# Altium footprint library LED.PcbLib: 43 footprints (part 2 of 3)
Each footprint in its own frame and in the unit in brackets; x right, y up, seen from the top. Pads: shape width x height; smd on the part's side, far side on the other; paste and mask are expansions set on the pad; w line width, h text height; cw(c..) or ccw(c..) is an arc to the next point about the centre after c.
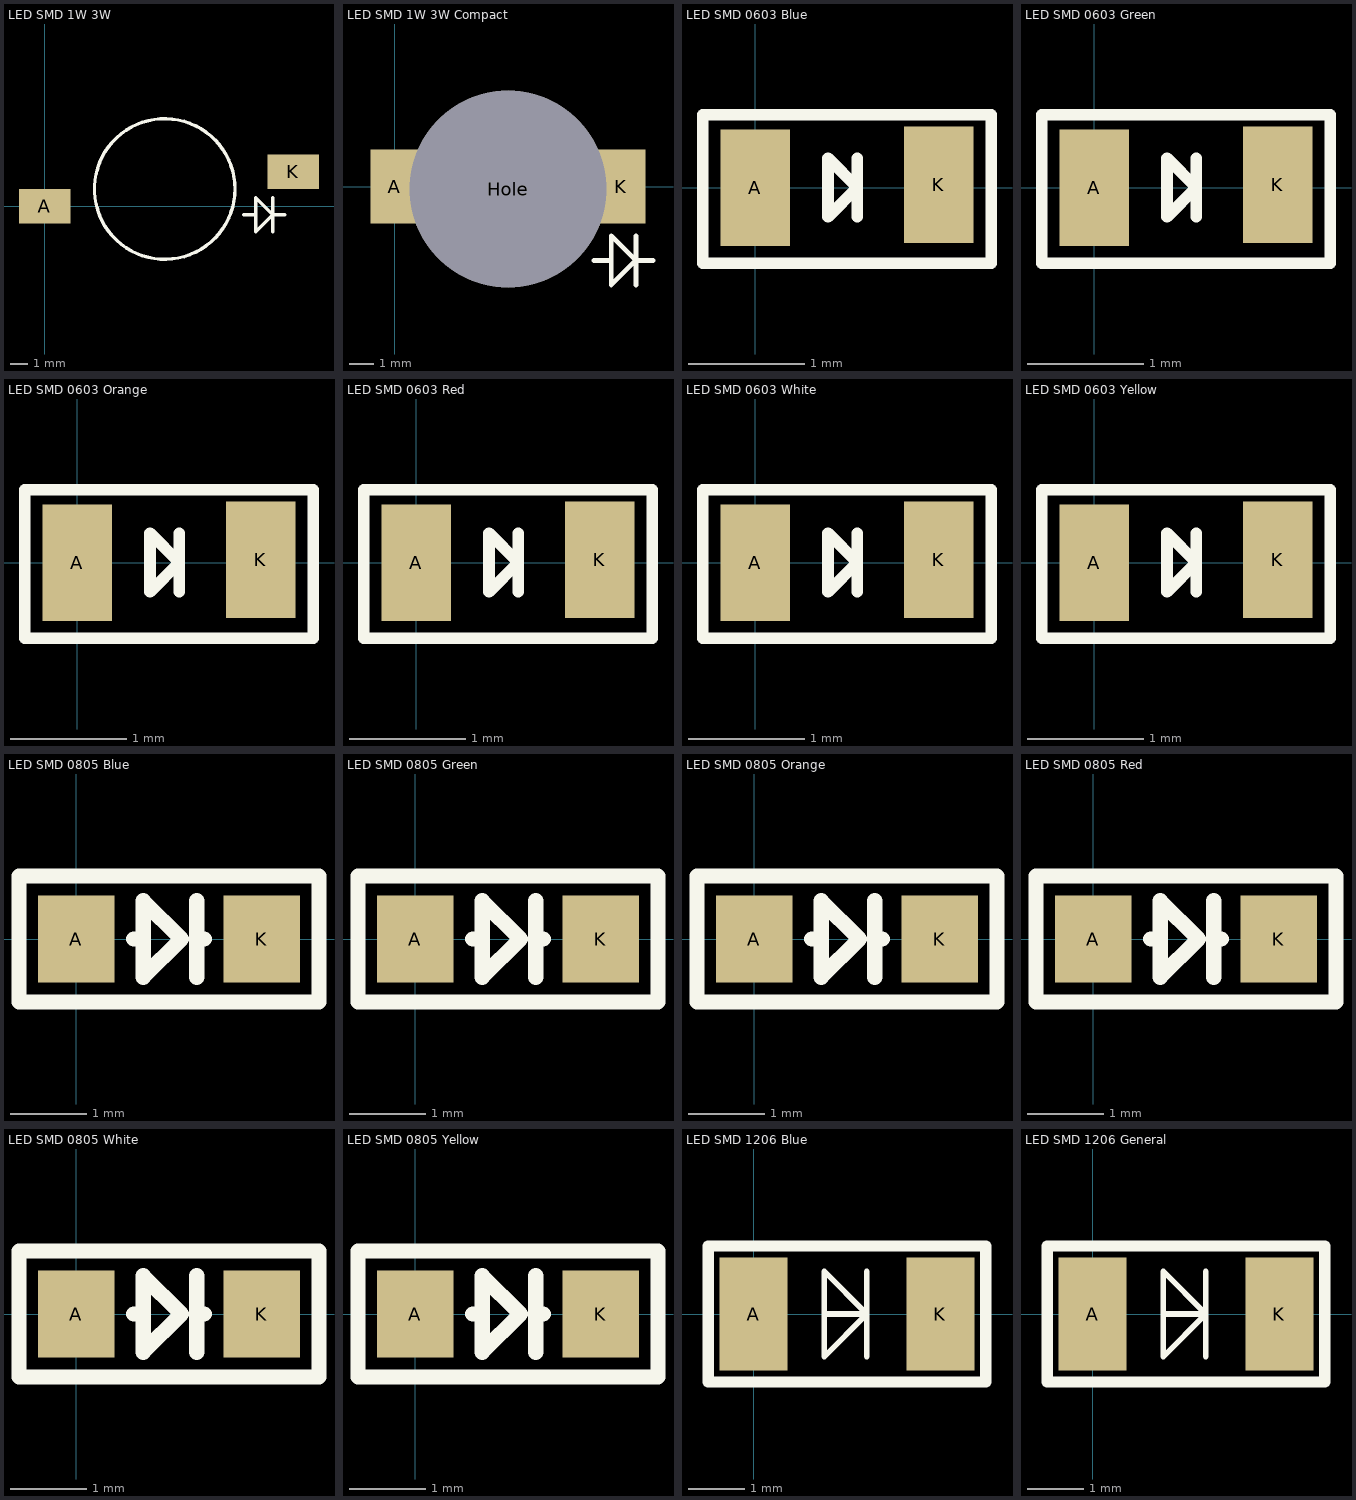
[diagram p1: the footprints below, top view; thin cyan lines are the x and y axes]

## LED SMD 1W 3W [mm]
height 5.4
pads (2):
  rect 3x2 smd: A(0,0) K(14.5,2)
Top Overlay:
  circle w0.2: c7,1 r4.1
  lines w0.2: 12.3,-0.5 11.6,-0.5 ; 13.3,-1.5 13.3,0.5 ; 14,-0.5 13.3,-0.5 ; 11.6,-0.5 11.6,-0.5 ; 13.3,-0.5 13.3,-0.5 ; 13.3,-0.5 12.3,0.5 12.3,-1.5 13.3,-0.5 ; 13.3,-0.5 13.3,-0.5
Top Solder:
  circle w4: c7,1 r1.9
3D body "1W-3W-Led.step": height 5.93, standoff -0.02, extent -0.086,-3 14.586,5

## LED SMD 1W 3W Compact [mm]
height 5.4
pads (3):
  rect 2x3 smd: A(0,0) K(9.2,0)
  round 8 hole 8 unplated mask+0: Hole(4.6,-0.1)
Top Overlay:
  lines w0.2: 8.8,-3 8.1,-3 ; 9.8,-4 9.8,-2 ; 10.5,-3 9.8,-3 ; 8.1,-3 8.1,-3 ; 9.8,-3 8.8,-2 8.8,-4 9.8,-3 ; 9.8,-3 9.8,-3
3D body "1W-3W-Led.step": height 4.5, standoff -1.45, extent -2.536,-4.1 12.136,3.9

## LED SMD 0603 Blue [mm]
height 0.55
pads (2):
  rect 0.6x1 smd: A(0,0) K(1.575,0.025)
Top Overlay:
  lines w0.1: 0.875,-0.25 0.875,0.25 ; -0.45,-0.65 -0.45,0.625 2.025,0.625 2.025,-0.65 -0.45,-0.65 ; 0.625,-0.25 0.625,0.25 0.875,0 0.625,-0.25
3D body "LED_0603_Blue.step": height 0.6, standoff 0, extent -0.01,-0.375 1.61,0.425

## LED SMD 0603 Green [mm]
height 0.55
pads (2):
  rect 0.6x1 smd: A(0,0) K(1.575,0.025)
Top Overlay:
  lines w0.1: 0.875,-0.25 0.875,0.25 ; -0.45,-0.65 -0.45,0.625 2.025,0.625 2.025,-0.65 -0.45,-0.65 ; 0.625,-0.25 0.875,0 0.625,0.25 0.625,-0.25
3D body "LED_0603_Green.step": height 0.6, standoff 0, extent -0.035,-0.375 1.585,0.425

## LED SMD 0603 Orange [mm]
height 0.55
pads (2):
  rect 0.6x1 smd: A(0,0) K(1.575,0.025)
Top Overlay:
  lines w0.1: 0.875,-0.25 0.875,0.25 ; -0.45,-0.65 -0.45,0.625 2.025,0.625 2.025,-0.65 -0.45,-0.65 ; 0.625,-0.25 0.875,0 0.625,0.25 0.625,-0.25
3D body "LED_0603_Orange.step": height 0.6, standoff 0, extent -0.01,-0.375 1.61,0.425

## LED SMD 0603 Red [mm]
height 0.55
pads (2):
  rect 0.6x1 smd: A(0,0) K(1.575,0.025)
Top Overlay:
  lines w0.1: 0.875,-0.25 0.875,0.25 ; -0.45,-0.65 -0.45,0.625 2.025,0.625 2.025,-0.65 -0.45,-0.65 ; 0.625,-0.25 0.625,0.25 0.875,0 0.625,-0.25
3D body "LED_0603_Red.step": height 0.6, standoff 0, extent -0.01,-0.375 1.61,0.425

## LED SMD 0603 White [mm]
height 0.55
pads (2):
  rect 0.6x1 smd: A(0,0) K(1.575,0.025)
Top Overlay:
  lines w0.1: 0.875,-0.25 0.875,0.25 ; -0.45,-0.65 2.025,-0.65 2.025,0.625 -0.45,0.625 -0.45,-0.65 ; 0.625,-0.25 0.625,0.25 0.875,0 0.625,-0.25
3D body "LED_0603.step": height 0.68, standoff 0, extent -0.025,-0.35 1.625,0.375

## LED SMD 0603 Yellow [mm]
height 0.55
pads (2):
  rect 0.6x1 smd: A(0,0) K(1.575,0.025)
Top Overlay:
  lines w0.1: 0.875,-0.25 0.875,0.25 ; -0.45,-0.65 2.025,-0.65 2.025,0.625 -0.45,0.625 -0.45,-0.65 ; 0.625,-0.25 0.625,0.25 0.875,0 0.625,-0.25
3D body "LED_0603_Yellow.step": height 0.6, standoff 0, extent -0.02,-0.375 1.6,0.425

## LED SMD 0805 Blue [mm]
height 0.5
pads (2):
  rect 1x1.143 smd: A(0,0) K(2.425,0)
Top Overlay:
  lines w0.2: 0.75,0 0.875,0 ; 1.575,-0.5 1.575,0.5 ; 1.575,0 1.675,0 ; -0.75,-0.825 -0.75,-0.607 -0.75,0.825 3.175,0.825 3.175,-0.825 -0.75,-0.825 ; 0.875,-0.5 1.375,0 0.875,0.5 0.875,-0.5
3D body "LED 0805 Blue.step": height 1.1, standoff 0, extent 0.175,-0.625 2.195,0.625

## LED SMD 0805 Green [mm]
height 0.5
pads (2):
  rect 1x1.143 smd: A(0,0) K(2.425,0)
Top Overlay:
  lines w0.2: 0.75,0 0.875,0 ; 1.575,-0.5 1.575,0.5 ; 1.575,0 1.675,0 ; -0.75,-0.825 -0.75,-0.607 -0.75,0.825 3.175,0.825 3.175,-0.825 -0.75,-0.825 ; 0.875,-0.5 1.375,0 0.875,0.5 0.875,-0.5
3D body "LED 0805 Green.step": height 1.1, standoff 0, extent 0.215,-0.625 2.235,0.625

## LED SMD 0805 Orange [mm]
pads (2):
  rect 1x1.143 smd: A(0,0) K(2.425,0)
Top Overlay:
  lines w0.2: 0.75,0 0.875,0 ; 1.575,-0.5 1.575,0.5 ; 1.575,0 1.675,0 ; -0.75,-0.825 3.175,-0.825 3.175,0.825 -0.75,0.825 -0.75,-0.607 -0.75,-0.825 ; 0.875,-0.5 0.875,0.5 1.375,0 0.875,-0.5
3D body "LED 0805 Orange.step": height 1.1, standoff 0, extent 0.19,-0.625 2.21,0.625

## LED SMD 0805 Red [mm]
height 1
pads (2):
  rect 1x1.143 smd: A(0,0) K(2.425,0)
Top Overlay:
  lines w0.2: 0.75,0 0.875,0 ; 1.575,-0.5 1.575,0.5 ; 1.575,0 1.675,0 ; -0.75,-0.825 -0.75,-0.607 -0.75,0.825 3.175,0.825 3.175,-0.825 -0.75,-0.825 ; 0.875,-0.5 1.375,0 0.875,0.5 0.875,-0.5
3D body "LED 0805 Red.step": height 1.1, standoff 0, extent 0.19,-0.625 2.21,0.625

## LED SMD 0805 White [mm]
height 0.5
pads (2):
  rect 1x1.143 smd: A(0,0) K(2.425,0)
Top Overlay:
  lines w0.2: 0.75,0 0.875,0 ; 1.575,-0.5 1.575,0.5 ; 1.575,0 1.675,0 ; -0.75,-0.825 -0.75,-0.607 -0.75,0.825 3.175,0.825 3.175,-0.825 -0.75,-0.825 ; 0.875,-0.5 1.375,0 0.875,0.5 0.875,-0.5
3D body "LED 0805 White.step": height 0.85, standoff 0.01, extent 0.169,-0.456 2.231,0.45

## LED SMD 0805 Yellow [mm]
pads (2):
  rect 1x1.143 smd: A(0,0) K(2.425,0)
Top Overlay:
  lines w0.2: 0.75,0 0.875,0 ; 1.575,-0.5 1.575,0.5 ; 1.575,0 1.675,0 ; -0.75,-0.825 3.175,-0.825 3.175,0.825 -0.75,0.825 -0.75,-0.607 -0.75,-0.825 ; 0.875,-0.5 0.875,0.5 1.375,0 0.875,-0.5
3D body "LED 0805 Yellow.step": height 1.1, standoff 0, extent 0.19,-0.625 2.21,0.625

## LED SMD 1206 Blue [mm]
pads (2):
  rect 1.2x2 smd: A(0,0) K(3.3,0)
Top Overlay:
  lines w0.1: 1.25,0 2,0 ; 2,-0.75 2,0.75 ; 2,0 1.25,-0.75 1.25,0.75 2,0
  lines w0.2: -0.8,-1.2 4.1,-1.2 4.1,1.2 -0.8,1.2 -0.8,-1.2
3D body "LED 1206 Blue.step": height 1.1, standoff 0, extent 0.04,-0.825 3.26,0.775

## LED SMD 1206 General [mm]
pads (2):
  rect 1.2x2 smd: A(0,0) K(3.3,0)
Top Overlay:
  lines w0.1: 1.25,0 2,0 ; 2,-0.75 2,0.75 ; 2,0 1.25,-0.75 1.25,0.75 2,0
  lines w0.2: -0.8,-1.2 4.1,-1.2 4.1,1.2 -0.8,1.2 -0.8,-1.2
3D body "LED 1206.step": height 1.1, standoff 0, extent 0.05,-0.825 3.25,0.775